# Altium footprint library Actuator Lib.PcbLib: 16 footprints
Each footprint in its own frame and in the unit in brackets; x right, y up, seen from the top. Pads: shape width x height; smd on the part's side, far side on the other; paste and mask are expansions set on the pad; w line width, h text height; cw(c..) or ccw(c..) is an arc to the next point about the centre after c.
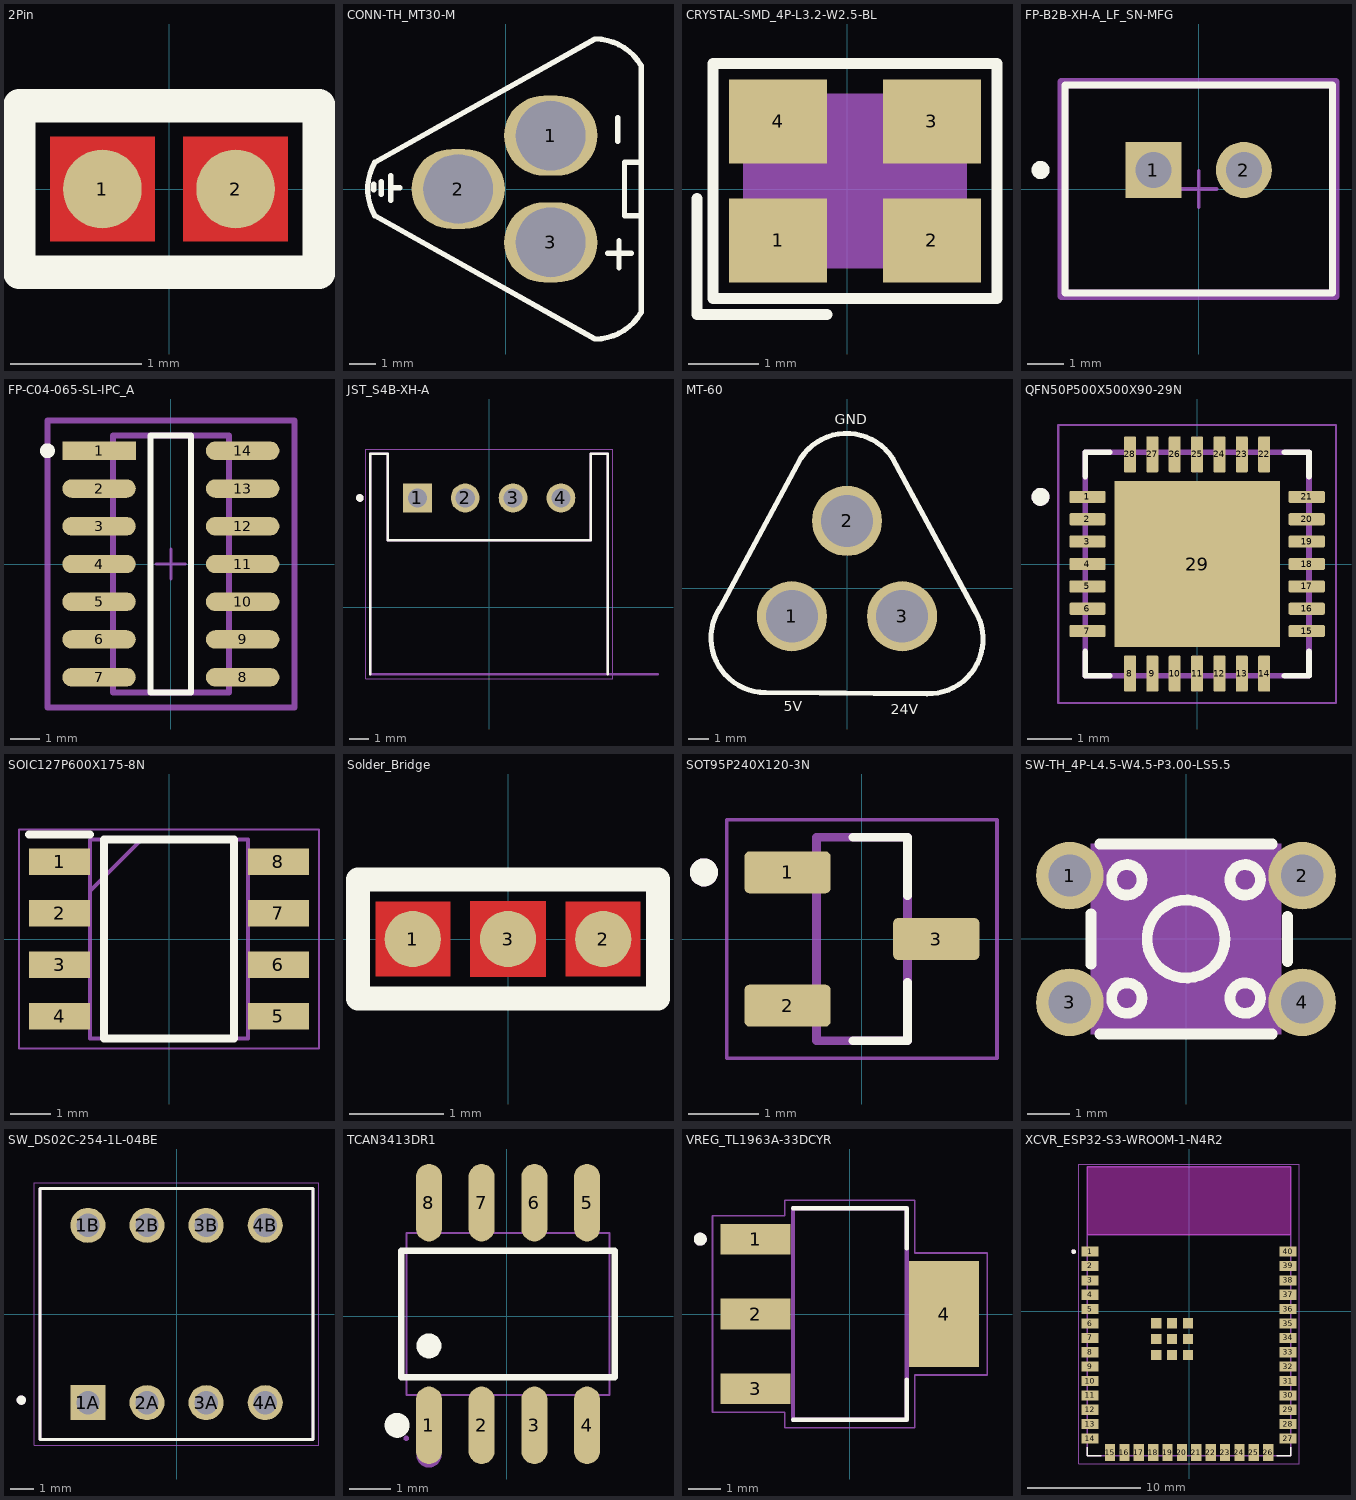
[diagram p0: the footprints below, top view; thin cyan lines are the x and y axes]

## 2Pin [mm]
pads (2):
  round 0.6 smd: 1(-0.508,0) 2(0.508,0)
Top Layer:
  rectangle: -0.908,-0.4 -0.108,0.4
  rectangle: 0.108,-0.4 0.908,0.4
Top Overlay:
  lines w0.254: -1.143,-0.635 1.143,-0.635 1.143,0.635 -1.143,0.635 -1.143,-0.635
Top Solder:
  rectangle: 0.102,-0.406 0.914,0.406
  rectangle: -0.914,-0.406 -0.102,0.406

## CONN-TH_MT30-M [mm]
pads (3):
  oval 3.5x3 hole 2.6 slot 2.605 at 0 deg: 1(1.682,2) 2(-1.782,0) 3(1.682,-2)
Top Overlay:
  lines w0.2: -4.952,-0.025 -4.952,0.178 ; -4.673,-0.203 -4.673,0.279 ; -4.317,-0.432 -4.317,0.508 ; -4.266,0.051 -3.962,0.051 ; 3.811,-2.413 4.7,-2.413 ; 4.192,1.778 4.192,2.667 ; 4.243,-2.946 4.243,-1.93 ; 5.075,-1.016 5.059,-1 4.45,-1 4.45,1 5.059,1 5.075,1.016 ; -4.907,-1 cw(c-3.175,0) -4.907,1 3.343,5.623 cw(c3.343,3.623) 5.075,4.623 5.075,-4.623 cw(c3.343,-3.623) 3.343,-5.623 -4.907,-1

## CRYSTAL-SMD_4P-L3.2-W2.5-BL [mm]
pads (4):
  rect 1.4x1.2 smd: 1(-0.986,-0.736) 2(1.214,-0.736) 3(1.214,0.964) 4(-0.986,0.964)
Top Overlay:
  lines w0.152: -2.143,-0.136 -2.143,-1.793 -0.286,-1.793 ; -1.914,-1.564 2.143,-1.564 2.143,1.793 -1.914,1.793 -1.914,-1.564
Mechanical 4:
  region: -1.486,-1.136 -1.486,1.364 1.714,1.364 1.714,-1.136
Top Assembly:
  region: -1.386,-0.236 -0.486,-0.236 -0.486,-1.036 -1.386,-1.036
  region: 0.714,-0.236 1.614,-0.236 1.614,-1.036 0.714,-1.036
  region: 0.714,1.264 1.614,1.264 1.614,0.464 0.714,0.464
  region: -1.386,1.264 -0.486,1.264 -0.486,0.464 -1.386,0.464
Mechanical 15:
  circle w0.254: c-1.156,-0.775 r0.127

## FP-B2B-XH-A_LF_SN-MFG [mm]
pads (2):
  rect 1.55x1.55 hole 1 paste-2539.97 mask+0: 1(-1.25,0.525)
  round 1.55 hole 1 paste-2539.97 mask+0: 2(1.25,0.525)
Top Overlay:
  circle w0.25: c-4.375,0.525 r0.125
  lines w0.2: -3.7,-2.875 -3.7,2.875 3.7,2.875 3.7,-2.875 -3.7,-2.875
Top 3D Body:
  lines w0.2: -3.7,-2.875 -3.7,2.875 3.7,2.875 3.7,-2.875 -3.7,-2.875
Top Courtyard:
  lines w0.2: -3.8,-2.975 -3.8,2.975 3.8,2.975 3.8,-2.975 -3.8,-2.975
Top Assembly:
  lines w0.2: -3.8,-2.975 -3.8,2.975 3.8,2.975 3.8,-2.975 -3.8,-2.975
  text ".Designator" at 0,0.188 h1
Top Component Center:
  lines w0.1: -0.5,0 0.5,0 ; 0,-0.5 0,0.5
3D body "Conn_JST_B2B-XH-A_LF_SN_eec.STEP": height 0.25, standoff 0, extent -3.8,-2.975 3.8,2.975

## FP-C04-065-SL-IPC_A [mm]
pads (14):
  rect 2.474x0.622 smd paste+0 mask+0: 1(-2.416,3.81)
  rrect100% 2.474x0.622 smd paste+0 mask+0: 2(-2.416,2.54) 3(-2.416,1.27) 4(-2.416,0) 5(-2.416,-1.27) 6(-2.416,-2.54) 7(-2.416,-3.81) 8(2.416,-3.81) 9(2.416,-2.54) 10(2.416,-1.27) 11(2.416,0) 12(2.416,1.27) 13(2.416,2.54) 14(2.416,3.81)
Top Overlay:
  circle w0.25: c-4.153,3.81 r0.125
  lines w0.2: -0.679,-4.325 0.679,-4.325 0.679,4.325 -0.679,4.325 -0.679,-4.325
Top 3D Body:
  lines w0.2: -1.95,-4.325 1.95,-4.325 1.95,4.325 -1.95,4.325 -1.95,-4.325
Top Courtyard:
  lines w0.2: -4.153,-4.825 4.153,-4.825 4.153,4.825 -4.153,4.825 -4.153,-4.825
Top Assembly:
  lines w0.2: -4.153,-4.825 4.153,-4.825 4.153,4.825 -4.153,4.825 -4.153,-4.825
  text ".Designator" at 0,0.188 h1
Top Component Center:
  lines w0.1: -0.5,0 0.5,0 ; 0,-0.5 0,0.5
3D body "IC_Microchip_MCP2517FD-H-SL_eec.STEP": height 0.25, standoff 0, extent -4.153,-4.825 4.153,4.825

## JST_S4B-XH-A [mm]
pads (4):
  rect 1.508x1.508 / inner round 1.508 / far side rect 1.508x1.508 hole 1: 1(-3.75,5.7)
  round 1.508 hole 1: 2(-1.25,5.7) 3(1.25,5.7) 4(3.75,5.7)
Top Overlay:
  circle w0.2: c-6.75,5.7 r0.1
  lines w0.127: -6.2,-3.5 -6.2,8 -5.3,8 -5.3,3.5 5.3,3.5 5.3,8 6.2,8 6.2,-3.5
Mechanical 13:
  circle w0.2: c-6.75,5.7 r0.1
  lines w0.127: 8.82,-3.5 6.2,-3.5 ; 6.2,-3.5 -6.2,-3.5 -6.2,8 -5.3,8 -5.3,3.5 5.3,3.5 5.3,8 6.2,8 6.2,-3.5
  text "PCB Edge" at 6.667,-3.203 h0.81
Mechanical 15:
  lines w0.05: -6.45,-3.75 -6.45,8.25 6.45,8.25 6.45,-3.75 -6.45,-3.75
3D body "step_temp.STEP": height 6.1, standoff -3.4, extent -6.2,-3.5 6.2,8

## MT-60 [mm]
pads (3):
  round 3.5 hole 2.605: 1(-2.75,-1.397) 2(0,3.366) 3(2.75,-1.397)
Top Overlay:
  lines w0.254: -6.335,-0.964 ccw(c-4.064,-2.478) -4.064,-5.207 3.991,-5.268 ccw(c4.064,-2.54) 6.395,-1.12 2.286,6.477 ccw(c-0.016,5.01) -2.307,6.493 -6.335,-0.964
  text "GND" at -0.62,8.199 h0.51
  text "24V" at 2.174,-6.279 h0.51
  text "5V" at -3.16,-6.152 h0.51
Bottom Overlay:
  text "GND" at 0.635,5.588 h0.51
  text "5V" at -2.413,-3.937 h0.51
  text "24V" at 3.556,-4.064 h0.51
3D body "FemaleMT60.stp": height 15, standoff 0, extent -6.804,-5.196 6.804,7.392

## QFN50P500X500X90-29N [mm]
height 0.9
pads (29):
  rrect25% 0.81x0.27 smd: 1(-2.45,1.5) 2(-2.45,1) 3(-2.45,0.5) 4(-2.45,0) 5(-2.45,-0.5) 6(-2.45,-1) 7(-2.45,-1.5) 15(2.45,-1.5) 16(2.45,-1) 17(2.45,-0.5) 18(2.45,0) 19(2.45,0.5) 20(2.45,1) 21(2.45,1.5)
  rrect25% 0.27x0.81 smd: 8(-1.5,-2.45) 9(-1,-2.45) 10(-0.5,-2.45) 11(0,-2.45) 12(0.5,-2.45) 13(1,-2.45) 14(1.5,-2.45) 22(1.5,2.45) 23(1,2.45) 24(0.5,2.45) 25(0,2.45) 26(-0.5,2.45) 27(-1,2.45) 28(-1.5,2.45)
  rect 3.7x3.7 smd paste-0.68: 29(0,0)
Top Overlay:
  circle w0.2: c-3.5,1.5 r0.1
  lines w0.127: -2.5,-1.955 -2.5,-2.5 -1.955,-2.5 ; -2.5,1.955 -2.5,2.5 -1.955,2.5 ; 1.955,-2.5 2.5,-2.5 2.5,-1.955 ; 1.955,2.5 2.5,2.5 2.5,1.955
Mechanical 13:
  circle w0.2: c-3.5,1.5 r0.1
  lines w0.127: -2.5,-2.5 2.5,-2.5 2.5,2.5 -2.5,2.5 -2.5,-2.5
Mechanical 15:
  lines w0.05: -3.105,-3.105 3.105,-3.105 3.105,3.105 -3.105,3.105 -3.105,-3.105
3D body "step_temp.STEP": height 0.9, standoff 0, extent -2.5,-2.5 2.5,2.5

## SOIC127P600X175-8N [mm]
pads (8):
  rect 1.5x0.65 smd: 1(-2.7,1.905) 2(-2.7,0.635) 3(-2.7,-0.635) 4(-2.7,-1.905) 5(2.7,-1.905) 6(2.7,-0.635) 7(2.7,0.635) 8(2.7,1.905)
Top Overlay:
  lines w0.2: -3.45,2.58 -1.95,2.58 ; -1.6,-2.45 1.6,-2.45 1.6,2.45 -1.6,2.45 -1.6,-2.45
Mechanical 13:
  lines w0.05: -3.7,-2.7 3.7,-2.7 3.7,2.7 -3.7,2.7 -3.7,-2.7
  lines w0.1: -1.95,1.18 -0.68,2.45 ; -1.95,-2.45 1.95,-2.45 1.95,2.45 -1.95,2.45 -1.95,-2.45
3D body "step_temp.STEP": height 1.75, standoff 0, extent -3,-2.45 3,2.45

## Solder_Bridge [mm]
pads (3):
  round 0.6 smd: 1(-1.016,0) 2(1.016,0) 3(0,0)
Top Layer:
  rectangle: -1.416,-0.4 -0.616,0.4
  rectangle: -0.406,-0.406 0.406,0.406
  rectangle: 0.616,-0.4 1.416,0.4
Top Overlay:
  lines w0.254: -1.6,-0.635 -1.6,0.635 1.6,0.635 1.6,-0.635 -1.6,-0.635
Top Solder:
  rectangle: -0.406,-0.406 0.406,0.406
  rectangle: 0.61,-0.406 1.422,0.406
  rectangle: -1.422,-0.406 -0.61,0.406

## SOT95P240X120-3N [mm]
height 1.2
pads (3):
  rrect25% 1.23x0.6 smd paste+0 mask+0.102: 1(-1.06,0.95) 2(-1.06,-0.95) 3(1.06,0)
Top Overlay:
  circle w0.2: c-2.25,0.95 r0.1
  lines w0.127: -0.125,-1.45 0.65,-1.45 0.65,-0.62 ; -0.125,1.45 0.65,1.45 0.65,0.62
Mechanical 13:
  circle w0.2: c-2.25,0.95 r0.1
  lines w0.127: -0.65,-1.45 0.65,-1.45 0.65,1.45 -0.65,1.45 -0.65,-1.45
Mechanical 15:
  lines w0.05: -1.925,-1.7 1.925,-1.7 1.925,1.7 -1.925,1.7 -1.925,-1.7
3D body "step_temp.STEP": height 1.3, standoff 0, extent -1.3,-1.52 1.3,1.52

## SW-TH_4P-L4.5-W4.5-P3.00-LS5.5 [mm]
pads (4):
  round 1.6 hole 1: 1(-2.75,1.5) 2(2.75,1.5) 3(-2.75,-1.5) 4(2.75,-1.5)
Top Overlay:
  circle w0.254: c0,0 r0.922
  circle w0.254: c1.4,1.4 r0.361
  circle w0.254: c-1.4,1.4 r0.361
  circle w0.254: c-1.4,-1.4 r0.361
  circle w0.254: c1.4,-1.4 r0.361
  lines w0.254: -2.25,-0.599 -2.25,0.598 ; -2.043,-2.25 2.043,-2.25 ; -2.044,2.25 2.044,2.25 ; 2.4,-0.53 2.4,0.53
Mechanical 4:
  region: -2.25,-2.25 -2.25,2.25 2.25,2.25 2.25,-2.25
Top Assembly:
  region: 2.6,-1.15 2.9,-1.15 2.9,-1.85 2.6,-1.85
  region: 2.6,1.85 2.9,1.85 2.9,1.15 2.6,1.15
  region: -2.9,-1.15 -2.6,-1.15 -2.6,-1.85 -2.9,-1.85
  region: -2.9,1.85 -2.6,1.85 -2.6,1.15 -2.9,1.15
  pour cut-out: -2.15,1.15 -2.9,1.15 -2.9,1.85 -2.15,1.85
  pour cut-out: 2.9,1.15 2.15,1.15 2.15,1.85 2.9,1.85
  pour cut-out: 2.9,-1.85 2.15,-1.85 2.15,-1.15 2.9,-1.15
  pour cut-out: -2.15,-1.85 -2.9,-1.85 -2.9,-1.15 -2.15,-1.15

## SW_DS02C-254-1L-04BE [mm]
height 9.9
pads (8):
  rect 1.508x1.508 / inner round 1.508 / far side rect 1.508x1.508 hole 1: 1A(-3.81,-3.81)
  round 1.508 hole 1: 1B(-3.81,3.81) 2A(-1.27,-3.81) 2B(-1.27,3.81) 3A(1.27,-3.81) 3B(1.27,3.81) 4A(3.81,-3.81) 4B(3.81,3.81)
Top Overlay:
  circle w0.2: c-6.67,-3.7 r0.1
  lines w0.127: -5.87,-5.4 5.87,-5.4 5.87,5.4 -5.87,5.4 -5.87,-5.4
Mechanical 13:
  circle w0.2: c-6.67,-3.7 r0.1
  lines w0.127: -5.87,-5.4 5.87,-5.4 5.87,5.4 -5.87,5.4 -5.87,-5.4
Mechanical 15:
  lines w0.05: -6.12,-5.65 -6.12,5.65 6.12,5.65 6.12,-5.65 -6.12,-5.65
3D body "step_temp.STEP": height 9.46, standoff -3.8, extent -5.865,-5.08 5.865,7.8

## TCAN3413DR1 [mm]
pads (8):
  oval 0.63x1.865 smd: 1(-1.877,-2.624) 2(-0.607,-2.624) 3(0.663,-2.624) 4(1.933,-2.624) 5(1.933,2.741) 6(0.663,2.741) 7(-0.607,2.741) 8(-1.877,2.741)
Top Overlay:
  circle w0.3: c-2.644,-2.624 r0.15
  circle w0.3: c-1.877,-0.71 r0.15
  lines w0.152: -2.548,-1.462 -2.548,1.581 2.605,1.581 2.605,-1.462 -2.548,-1.462
Mechanical 6:
  circle w0.3: c-1.877,-3.341 r0.15
Mechanical 15:
  region: -2.362,-2.941 -2.362,-2.966 -2.397,-3.001 -2.446,-3.001 -2.482,-2.966 -2.482,-2.941 -2.482,-2.916 -2.446,-2.881 -2.397,-2.881 -2.362,-2.916
  region: -2.092,-2.301 -2.092,-1.881 -1.662,-1.881 -1.662,-2.301
  region: -2.092,-2.941 -2.092,-2.291 -1.662,-2.291 -1.662,-2.941
  region: -0.822,-2.301 -0.822,-1.881 -0.392,-1.881 -0.392,-2.301
  region: -0.822,-2.941 -0.822,-2.291 -0.392,-2.291 -0.392,-2.941
  region: 0.448,-2.301 0.448,-1.881 0.878,-1.881 0.878,-2.301
  region: 0.448,-2.941 0.448,-2.291 0.878,-2.291 0.878,-2.941
  region: 1.718,-2.301 1.718,-1.881 2.148,-1.881 2.148,-2.301
  region: 1.718,-2.941 1.718,-2.291 2.148,-2.291 2.148,-2.941
  region: -2.092,1.999 -2.092,2.419 -1.662,2.419 -1.662,1.999
  region: -2.092,2.409 -2.092,3.059 -1.662,3.059 -1.662,2.409
  region: -0.822,1.999 -0.822,2.419 -0.392,2.419 -0.392,1.999
  region: -0.822,2.409 -0.822,3.059 -0.392,3.059 -0.392,2.409
  region: 0.448,1.999 0.448,2.419 0.878,2.419 0.878,1.999
  region: 0.448,2.409 0.448,3.059 0.878,3.059 0.878,2.409
  region: 1.718,1.999 1.718,2.419 2.148,2.419 2.148,1.999
  region: 1.718,2.409 1.718,3.059 2.148,3.059 2.148,2.409
  lines w0.051: -2.422,-1.891 -2.422,2.009 2.478,2.009 2.478,-1.891 -2.422,-1.891
3D body "TSIC 306 SOP-8--3DModel-STEP-510211.STEP": height 1.73, standoff 0, extent -2.438,-2.972 2.489,3.023

## VREG_TL1963A-33DCYR [mm]
height 1.8
pads (4):
  rect 2.15x0.95 smd: 1(-2.9,2.3) 2(-2.9,0) 3(-2.9,-2.3)
  rect 2.15x3.25 smd: 4(2.9,0)
Top Overlay:
  circle w0.2: c-4.6,2.3 r0.1
  lines w0.127: -1.75,-3.25 1.75,-3.25 1.75,-2.01 ; -1.75,3.25 1.75,3.25 1.75,2.01
Mechanical 13:
  circle w0.2: c-4.6,2.3 r0.1
  lines w0.127: -1.75,-3.25 1.75,-3.25 1.75,3.25 -1.75,3.25 -1.75,-3.25
Mechanical 15:
  lines w0.05: -4.225,-3.025 -2,-3.025 -2,-3.5 2,-3.5 2,-1.875 4.225,-1.875 4.225,1.875 2,1.875 2,3.5 -2,3.5 -2,3.025 -4.225,3.025 -4.225,-3.025
3D body "step_temp.STEP": height 1.8, standoff 0, extent -3.499,-3.25 3.499,3.25

## XCVR_ESP32-S3-WROOM-1-N4R2 [mm]
height 3.25
pads (49):
  rect 1.5x0.9 smd: 1(-8.75,5.26) 2(-8.75,3.99) 3(-8.75,2.72) 4(-8.75,1.45) 5(-8.75,0.18) 6(-8.75,-1.09) 7(-8.75,-2.36) 8(-8.75,-3.63) 9(-8.75,-4.9) 10(-8.75,-6.17) 11(-8.75,-7.44) 12(-8.75,-8.71) 13(-8.75,-9.98) 14(-8.75,-11.25) 27(8.75,-11.25) 28(8.75,-9.98) 29(8.75,-8.71) 30(8.75,-7.44) 31(8.75,-6.17) 32(8.75,-4.9) 33(8.75,-3.63) 34(8.75,-2.36) 35(8.75,-1.09) 36(8.75,0.18) 37(8.75,1.45) 38(8.75,2.72) 39(8.75,3.99) 40(8.75,5.26)
  rect 0.9x1.5 smd: 15(-6.985,-12.5) 16(-5.715,-12.5) 17(-4.445,-12.5) 18(-3.175,-12.5) 19(-1.905,-12.5) 20(-0.635,-12.5) 21(0.635,-12.5) 22(1.905,-12.5) 23(3.175,-12.5) 24(4.445,-12.5) 25(5.715,-12.5) 26(6.985,-12.5)
  rect 0.9x0.9 smd: 41_1(-1.5,-2.46) 41_2(-2.9,-2.46) 41_3(-0.1,-2.46) 41_4(-2.9,-3.86) 41_5(-1.5,-3.86) 41_6(-0.1,-3.86) 41_7(-2.9,-1.06) 41_8(-1.5,-1.06) 41_9(-0.1,-1.06)
Top Overlay:
  circle w0.2: c-10.2,5.26 r0.1
  lines w0.127: -9,-12.02 -9,-12.75 -7.755,-12.75 ; 7.755,-12.75 9,-12.75 9,-12.02
Keep-Out Layer:
  region: 9,6.75 -9,6.75 -9,12.75 9,12.75
  region: 9,6.75 -9,6.75 -9,12.75 9,12.75
Mechanical 13:
  circle w0.2: c-10.2,5.26 r0.1
  lines w0.127: -9,6.75 9,6.75 ; -9,6.75 -9,12.75 9,12.75 9,6.75 ; -9,6.75 -9,-12.75 9,-12.75 9,6.75
  text "ANTENNA" at -4.5,9.5 h1.27
Mechanical 15:
  lines w0.05: -9.75,-13.5 9.75,-13.5 9.75,13 -9.75,13 -9.75,-13.5
3D body "step_temp.STEP": height 3.25, standoff 0, extent -9,-12.75 9,12.75